# Altium footprint library WURTH WS-SLSU 450405020524.PcbLib: 1 footprints
Each footprint in its own frame and in the unit in brackets; x right, y up, seen from the top. Pads: shape width x height; smd on the part's side, far side on the other; paste and mask are expansions set on the pad; w line width, h text height; cw(c..) or ccw(c..) is an arc to the next point about the centre after c.
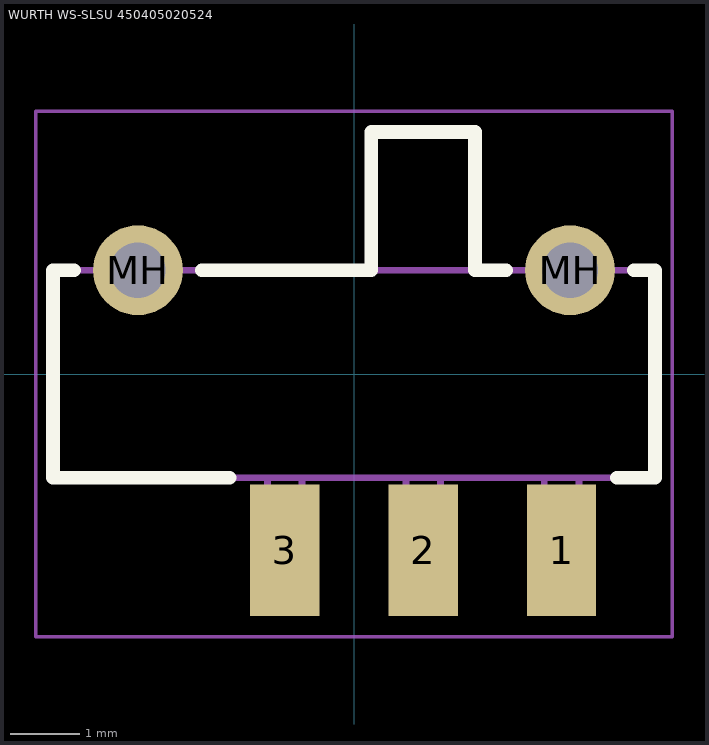
[diagram p0: the footprint, top view; thin cyan lines are the x and y axes]

## WURTH WS-SLSU 450405020524 [mm] "SMT Mini Slide Switch, Same side connection"
height 2
pads (5):
  rect 1x1.9 smd: 1(3,-2.55) 2(1,-2.55) 3(-1,-2.55)
  round 1.3 hole 0.8: MH(-3.125,1.5) MH(3.125,1.5)
Top Overlay:
  lines w0.2: -4.05,1.5 -4.35,1.5 -4.35,-1.5 -1.8,-1.5 ; -2.2,1.5 0.25,1.5 0.25,3.5 1.75,3.5 1.75,1.5 2.2,1.5 ; 3.8,-1.5 4.35,-1.5 4.35,1.5 4.05,1.5
Top Assembly:
  lines w0.1: -1.25,-1.5 -1.25,-3 -0.75,-3 -0.75,-1.5 ; 0.25,1.5 0.25,3.5 1.75,3.5 1.75,1.5 ; 0.75,-1.5 0.75,-3 1.25,-3 1.25,-1.5 ; 2.75,-1.5 2.75,-3 3.25,-3 3.25,-1.5 ; -4.35,-1.5 -4.35,1.5 4.35,1.5 4.35,-1.5 -4.35,-1.5
Top Courtyard:
  lines w0.05: -4.6,-3.8 4.6,-3.8 4.6,3.8 -4.6,3.8 -4.6,-3.8
Top Designator:
  text ".Designator" at -4.998,-0.333 h1
3D body "450405020524.stp": height 1.98, standoff -0.62, extent -4.45,-3.05 4.45,3.5